# Altium integrated library Silicon Labs Automotive & Industrial MCUs.IntLib: 240 symbols (part 2 of 8)
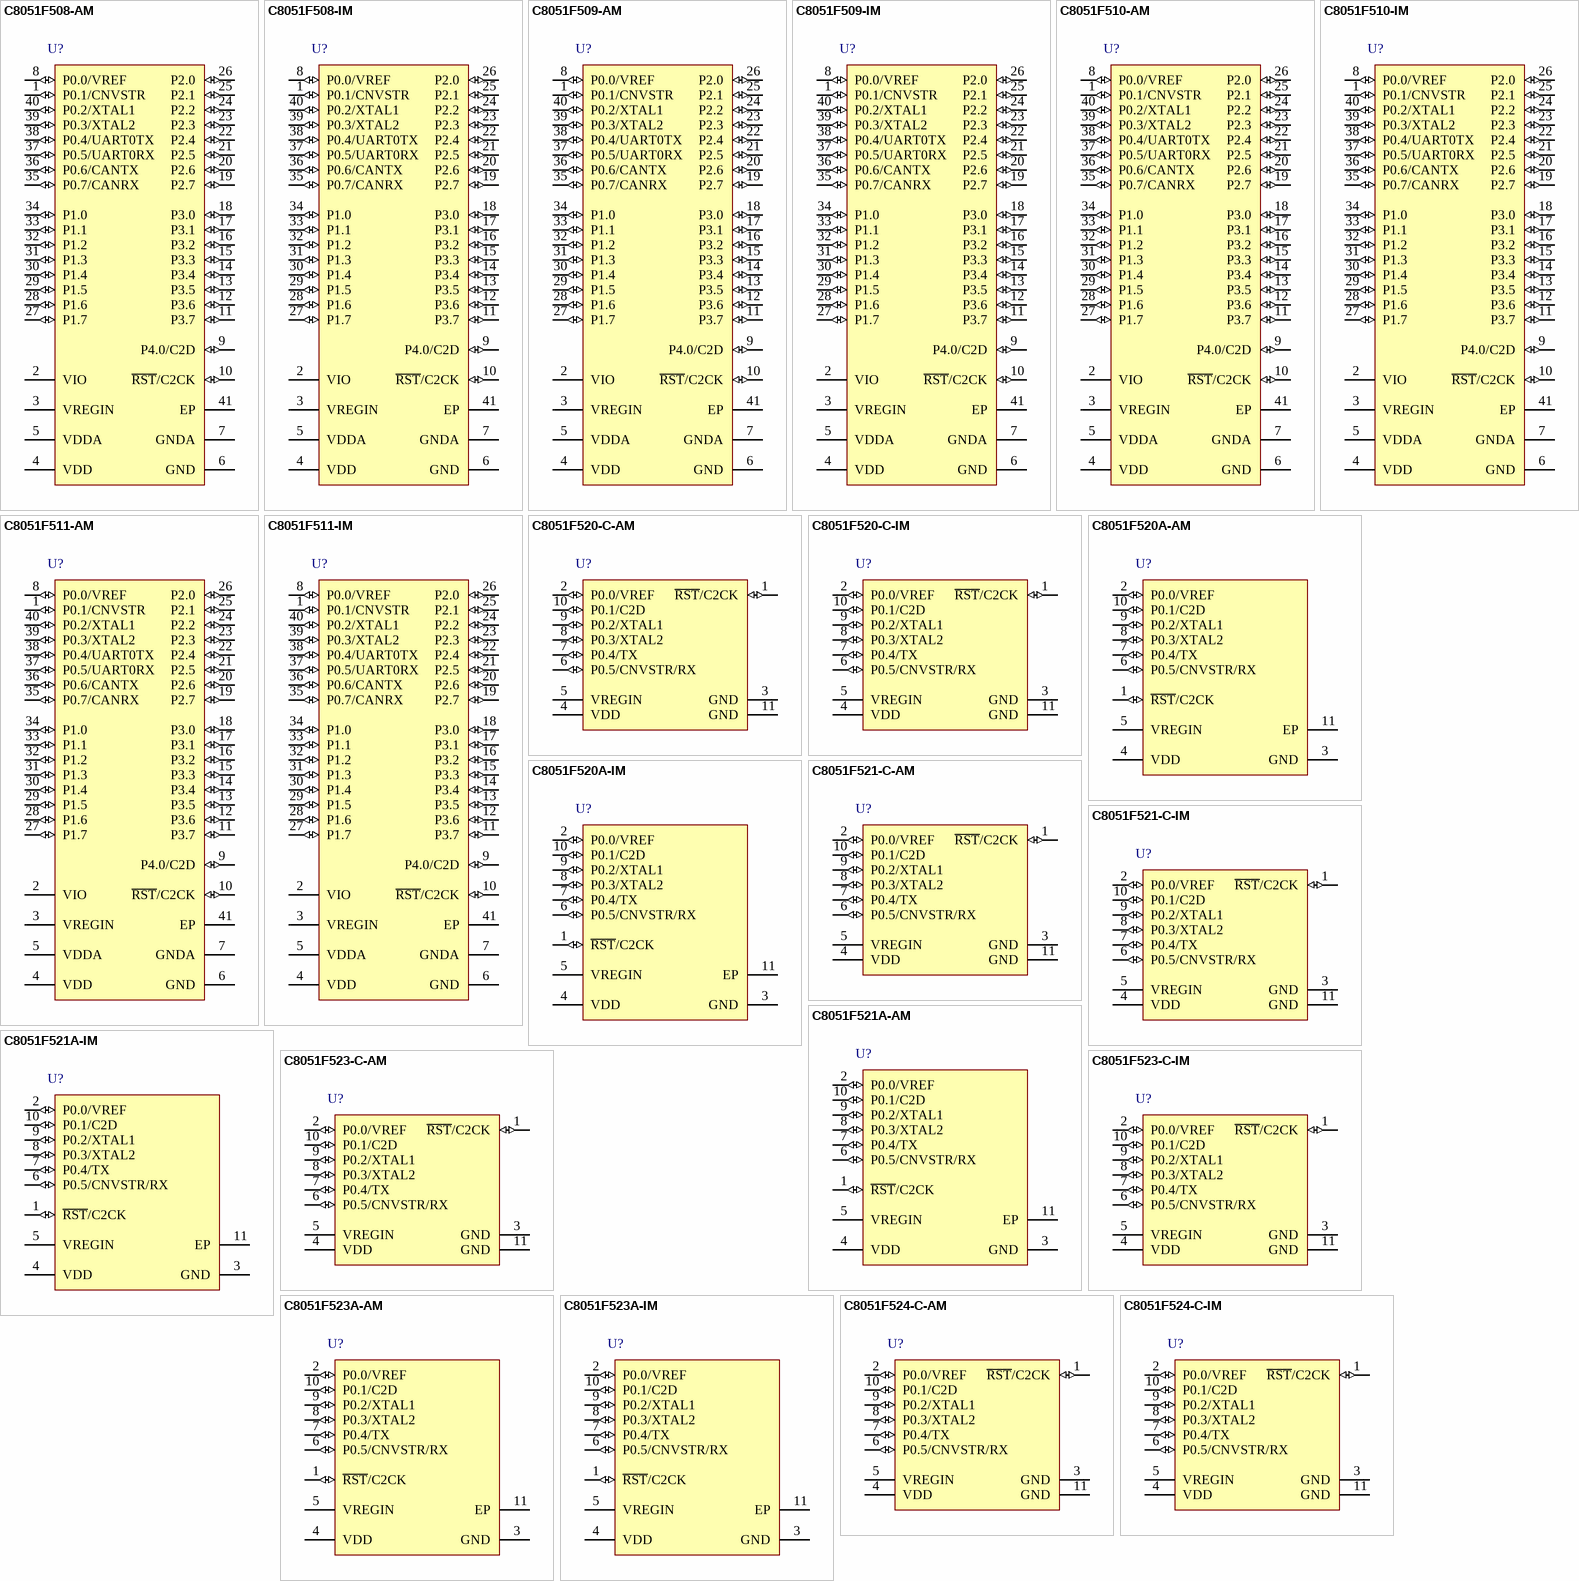
[diagram p14: symbols C8051F508-AM to C8051F524-C-IM]

## C8051F508-IM
designator U?
Mixed Signal 64KB ISP Flash MCU, 4352B RAM, 33 I/Os, 12-Bit 32 Channel ADC, Can 2.0B, LIN 2.0, Ext Mem, 40-Pin QFN, Industrial Grade; Manufacturer: Silicon Labs; PartNumber: C8051F508-IM; DatasheetVersion: rev1.2, Mar-2011; PackageVersion: 2011; PackageReference: QFN-40; PackageDescription: 40-Pin Quad Flat No-Lead, 6 x 6 x 0.85 mm Body, 0.5 mm Pitch; Supplier 1: Digi-Key; Supplier Part Number 1: 336-1560-5-ND; Supplier 2: Mouser; Supplier Part Number 2: 634-C8051F508-IM; Code_JEDEC: MO-220-VJJD-5; ComponentLink1Description: Manufacturer URL; ComponentLink1URL: http://www.silabs.com; ComponentLink2Description: Datasheet; ComponentLink2URL: http://www.silabs.com/Support%20Documents/TechnicalDocs/C8051F50x-51x.pdf
footprint QFN-40_V (QFN, 40-Leads, Body 6x6mm, Pitch 0.5mm, Thermal Pad 4.15x4.15mm, Silicon Labs Recommended)
pins: 1 P0.1/CNVSTR (io), 2 VIO (power), 3 VREGIN (power), 4 VDD (power), 5 VDDA (power), 6 GND (power), 7 GNDA (power), 8 P0.0/VREF (io), 9 P4.0/C2D (io), 10 ~{RST}/C2CK (io), 11 P3.7 (io), 12 P3.6 (io), 13 P3.5 (io), 14 P3.4 (io), 15 P3.3 (io), 16 P3.2 (io), 17 P3.1 (io), 18 P3.0 (io), 19 P2.7 (io), 20 P2.6 (io), 21 P2.5 (io), 22 P2.4 (io), 23 P2.3 (io), 24 P2.2 (io), 25 P2.1 (io), 26 P2.0 (io), 27 P1.7 (io), 28 P1.6 (io), 29 P1.5 (io), 30 P1.4 (io), 31 P1.3 (io), 32 P1.2 (io), 33 P1.1 (io), 34 P1.0 (io), 35 P0.7/CANRX (io), 36 P0.6/CANTX (io), 37 P0.5/UART0RX (io), 38 P0.4/UART0TX (io), 39 P0.3/XTAL2 (io), 40 P0.2/XTAL1 (io), 41 EP (power)

## C8051F509-AM
designator U?
Mixed Signal 64KB ISP Flash MCU, 4352B RAM, 33 I/Os, 12-Bit 32 Channel ADC, Ext Mem, 40-Pin QFN, Automotive Grade; Manufacturer: Silicon Labs; PartNumber: C8051F509-AM; DatasheetVersion: rev1.2, Mar-2011; PackageVersion: 2011; PackageReference: QFN-40; PackageDescription: 40-Pin Quad Flat No-Lead, 6 x 6 x 0.85 mm Body, 0.5 mm Pitch; Code_JEDEC: MO-220-VJJD-5; ComponentLink1Description: Manufacturer URL; ComponentLink1URL: http://www.silabs.com; ComponentLink2Description: Datasheet; ComponentLink2URL: http://www.silabs.com/Support%20Documents/TechnicalDocs/C8051F50x-51x.pdf
footprint QFN-40_V (QFN, 40-Leads, Body 6x6mm, Pitch 0.5mm, Thermal Pad 4.15x4.15mm, Silicon Labs Recommended)
pins: 1 P0.1/CNVSTR (io), 2 VIO (power), 3 VREGIN (power), 4 VDD (power), 5 VDDA (power), 6 GND (power), 7 GNDA (power), 8 P0.0/VREF (io), 9 P4.0/C2D (io), 10 ~{RST}/C2CK (io), 11 P3.7 (io), 12 P3.6 (io), 13 P3.5 (io), 14 P3.4 (io), 15 P3.3 (io), 16 P3.2 (io), 17 P3.1 (io), 18 P3.0 (io), 19 P2.7 (io), 20 P2.6 (io), 21 P2.5 (io), 22 P2.4 (io), 23 P2.3 (io), 24 P2.2 (io), 25 P2.1 (io), 26 P2.0 (io), 27 P1.7 (io), 28 P1.6 (io), 29 P1.5 (io), 30 P1.4 (io), 31 P1.3 (io), 32 P1.2 (io), 33 P1.1 (io), 34 P1.0 (io), 35 P0.7/CANRX (io), 36 P0.6/CANTX (io), 37 P0.5/UART0RX (io), 38 P0.4/UART0TX (io), 39 P0.3/XTAL2 (io), 40 P0.2/XTAL1 (io), 41 EP (power)

## C8051F509-IM
designator U?
Mixed Signal 64KB ISP Flash MCU, 4352B RAM, 33 I/Os, 12-Bit 32 Channel ADC, Ext Mem, 40-Pin QFN, Industrial Grade; Manufacturer: Silicon Labs; PartNumber: C8051F509-IM; DatasheetVersion: rev1.2, Mar-2011; PackageVersion: 2011; PackageReference: QFN-40; PackageDescription: 40-Pin Quad Flat No-Lead, 6 x 6 x 0.85 mm Body, 0.5 mm Pitch; Supplier 1: Digi-Key; Supplier Part Number 1: 336-1561-5-ND; Supplier 2: Mouser; Supplier Part Number 2: 634-C8051F509-IM; Code_JEDEC: MO-220-VJJD-5; ComponentLink1Description: Manufacturer URL; ComponentLink1URL: http://www.silabs.com; ComponentLink2Description: Datasheet; ComponentLink2URL: http://www.silabs.com/Support%20Documents/TechnicalDocs/C8051F50x-51x.pdf
footprint QFN-40_V (QFN, 40-Leads, Body 6x6mm, Pitch 0.5mm, Thermal Pad 4.15x4.15mm, Silicon Labs Recommended)
pins: 1 P0.1/CNVSTR (io), 2 VIO (power), 3 VREGIN (power), 4 VDD (power), 5 VDDA (power), 6 GND (power), 7 GNDA (power), 8 P0.0/VREF (io), 9 P4.0/C2D (io), 10 ~{RST}/C2CK (io), 11 P3.7 (io), 12 P3.6 (io), 13 P3.5 (io), 14 P3.4 (io), 15 P3.3 (io), 16 P3.2 (io), 17 P3.1 (io), 18 P3.0 (io), 19 P2.7 (io), 20 P2.6 (io), 21 P2.5 (io), 22 P2.4 (io), 23 P2.3 (io), 24 P2.2 (io), 25 P2.1 (io), 26 P2.0 (io), 27 P1.7 (io), 28 P1.6 (io), 29 P1.5 (io), 30 P1.4 (io), 31 P1.3 (io), 32 P1.2 (io), 33 P1.1 (io), 34 P1.0 (io), 35 P0.7/CANRX (io), 36 P0.6/CANTX (io), 37 P0.5/UART0RX (io), 38 P0.4/UART0TX (io), 39 P0.3/XTAL2 (io), 40 P0.2/XTAL1 (io), 41 EP (power)

## C8051F510-AM
designator U?
Mixed Signal 32KB ISP Flash MCU, 4352B RAM, 33 I/Os, 12-Bit 32 Channel ADC, Can 2.0B, LIN 2.0, Ext Mem, 40-Pin QFN, Automotive Grade; Manufacturer: Silicon Labs; PartNumber: C8051F510-AM; DatasheetVersion: rev1.2, Mar-2011; PackageVersion: 2011; PackageReference: QFN-40; PackageDescription: 40-Pin Quad Flat No-Lead, 6 x 6 x 0.85 mm Body, 0.5 mm Pitch; Code_JEDEC: MO-220-VJJD-5; ComponentLink1Description: Manufacturer URL; ComponentLink1URL: http://www.silabs.com; ComponentLink2Description: Datasheet; ComponentLink2URL: http://www.silabs.com/Support%20Documents/TechnicalDocs/C8051F50x-51x.pdf
footprint QFN-40_V (QFN, 40-Leads, Body 6x6mm, Pitch 0.5mm, Thermal Pad 4.15x4.15mm, Silicon Labs Recommended)
pins: 1 P0.1/CNVSTR (io), 2 VIO (power), 3 VREGIN (power), 4 VDD (power), 5 VDDA (power), 6 GND (power), 7 GNDA (power), 8 P0.0/VREF (io), 9 P4.0/C2D (io), 10 ~{RST}/C2CK (io), 11 P3.7 (io), 12 P3.6 (io), 13 P3.5 (io), 14 P3.4 (io), 15 P3.3 (io), 16 P3.2 (io), 17 P3.1 (io), 18 P3.0 (io), 19 P2.7 (io), 20 P2.6 (io), 21 P2.5 (io), 22 P2.4 (io), 23 P2.3 (io), 24 P2.2 (io), 25 P2.1 (io), 26 P2.0 (io), 27 P1.7 (io), 28 P1.6 (io), 29 P1.5 (io), 30 P1.4 (io), 31 P1.3 (io), 32 P1.2 (io), 33 P1.1 (io), 34 P1.0 (io), 35 P0.7/CANRX (io), 36 P0.6/CANTX (io), 37 P0.5/UART0RX (io), 38 P0.4/UART0TX (io), 39 P0.3/XTAL2 (io), 40 P0.2/XTAL1 (io), 41 EP (power)

## C8051F510-IM
designator U?
Mixed Signal 32KB ISP Flash MCU, 4352B RAM, 33 I/Os, 12-Bit 32 Channel ADC, Can 2.0B, LIN 2.0, Ext Mem, 40-Pin QFN, Industrial Grade; Manufacturer: Silicon Labs; PartNumber: C8051F510-IM; DatasheetVersion: rev1.2, Mar-2011; PackageVersion: 2011; PackageReference: QFN-40; PackageDescription: 40-Pin Quad Flat No-Lead, 6 x 6 x 0.85 mm Body, 0.5 mm Pitch; Supplier 1: Digi-Key; Supplier Part Number 1: 336-1562-5-ND; Supplier 2: Mouser; Supplier Part Number 2: 634-C8051F510-IM; Code_JEDEC: MO-220-VJJD-5; ComponentLink1Description: Manufacturer URL; ComponentLink1URL: http://www.silabs.com; ComponentLink2Description: Datasheet; ComponentLink2URL: http://www.silabs.com/Support%20Documents/TechnicalDocs/C8051F50x-51x.pdf
footprint QFN-40_V (QFN, 40-Leads, Body 6x6mm, Pitch 0.5mm, Thermal Pad 4.15x4.15mm, Silicon Labs Recommended)
pins: 1 P0.1/CNVSTR (io), 2 VIO (power), 3 VREGIN (power), 4 VDD (power), 5 VDDA (power), 6 GND (power), 7 GNDA (power), 8 P0.0/VREF (io), 9 P4.0/C2D (io), 10 ~{RST}/C2CK (io), 11 P3.7 (io), 12 P3.6 (io), 13 P3.5 (io), 14 P3.4 (io), 15 P3.3 (io), 16 P3.2 (io), 17 P3.1 (io), 18 P3.0 (io), 19 P2.7 (io), 20 P2.6 (io), 21 P2.5 (io), 22 P2.4 (io), 23 P2.3 (io), 24 P2.2 (io), 25 P2.1 (io), 26 P2.0 (io), 27 P1.7 (io), 28 P1.6 (io), 29 P1.5 (io), 30 P1.4 (io), 31 P1.3 (io), 32 P1.2 (io), 33 P1.1 (io), 34 P1.0 (io), 35 P0.7/CANRX (io), 36 P0.6/CANTX (io), 37 P0.5/UART0RX (io), 38 P0.4/UART0TX (io), 39 P0.3/XTAL2 (io), 40 P0.2/XTAL1 (io), 41 EP (power)

## C8051F511-AM
designator U?
Mixed Signal 32KB ISP Flash MCU, 4352B RAM, 33 I/Os, 12-Bit 32 Channel ADC, Ext Mem, 40-Pin QFN, Automotive Grade; Manufacturer: Silicon Labs; PartNumber: C8051F511-AM; DatasheetVersion: rev1.2, Mar-2011; PackageVersion: 2011; PackageReference: QFN-40; PackageDescription: 40-Pin Quad Flat No-Lead, 6 x 6 x 0.85 mm Body, 0.5 mm Pitch; Code_JEDEC: MO-220-VJJD-5; ComponentLink1Description: Manufacturer URL; ComponentLink1URL: http://www.silabs.com; ComponentLink2Description: Datasheet; ComponentLink2URL: http://www.silabs.com/Support%20Documents/TechnicalDocs/C8051F50x-51x.pdf
footprint QFN-40_V (QFN, 40-Leads, Body 6x6mm, Pitch 0.5mm, Thermal Pad 4.15x4.15mm, Silicon Labs Recommended)
pins: 1 P0.1/CNVSTR (io), 2 VIO (power), 3 VREGIN (power), 4 VDD (power), 5 VDDA (power), 6 GND (power), 7 GNDA (power), 8 P0.0/VREF (io), 9 P4.0/C2D (io), 10 ~{RST}/C2CK (io), 11 P3.7 (io), 12 P3.6 (io), 13 P3.5 (io), 14 P3.4 (io), 15 P3.3 (io), 16 P3.2 (io), 17 P3.1 (io), 18 P3.0 (io), 19 P2.7 (io), 20 P2.6 (io), 21 P2.5 (io), 22 P2.4 (io), 23 P2.3 (io), 24 P2.2 (io), 25 P2.1 (io), 26 P2.0 (io), 27 P1.7 (io), 28 P1.6 (io), 29 P1.5 (io), 30 P1.4 (io), 31 P1.3 (io), 32 P1.2 (io), 33 P1.1 (io), 34 P1.0 (io), 35 P0.7/CANRX (io), 36 P0.6/CANTX (io), 37 P0.5/UART0RX (io), 38 P0.4/UART0TX (io), 39 P0.3/XTAL2 (io), 40 P0.2/XTAL1 (io), 41 EP (power)

## C8051F511-IM
designator U?
Mixed Signal 32KB ISP Flash MCU, 4352B RAM, 33 I/Os, 12-Bit 32 Channel ADC, Ext Mem, 40-Pin QFN, Industrial Grade; Manufacturer: Silicon Labs; PartNumber: C8051F511-IM; DatasheetVersion: rev1.2, Mar-2011; PackageVersion: 2011; PackageReference: QFN-40; PackageDescription: 40-Pin Quad Flat No-Lead, 6 x 6 x 0.85 mm Body, 0.5 mm Pitch; Supplier 1: Digi-Key; Supplier Part Number 1: 336-1563-5-ND; Supplier 2: Mouser; Supplier Part Number 2: 634-C8051F511-IM; Code_JEDEC: MO-220-VJJD-5; ComponentLink1Description: Manufacturer URL; ComponentLink1URL: http://www.silabs.com; ComponentLink2Description: Datasheet; ComponentLink2URL: http://www.silabs.com/Support%20Documents/TechnicalDocs/C8051F50x-51x.pdf
footprint QFN-40_V (QFN, 40-Leads, Body 6x6mm, Pitch 0.5mm, Thermal Pad 4.15x4.15mm, Silicon Labs Recommended)
pins: 1 P0.1/CNVSTR (io), 2 VIO (power), 3 VREGIN (power), 4 VDD (power), 5 VDDA (power), 6 GND (power), 7 GNDA (power), 8 P0.0/VREF (io), 9 P4.0/C2D (io), 10 ~{RST}/C2CK (io), 11 P3.7 (io), 12 P3.6 (io), 13 P3.5 (io), 14 P3.4 (io), 15 P3.3 (io), 16 P3.2 (io), 17 P3.1 (io), 18 P3.0 (io), 19 P2.7 (io), 20 P2.6 (io), 21 P2.5 (io), 22 P2.4 (io), 23 P2.3 (io), 24 P2.2 (io), 25 P2.1 (io), 26 P2.0 (io), 27 P1.7 (io), 28 P1.6 (io), 29 P1.5 (io), 30 P1.4 (io), 31 P1.3 (io), 32 P1.2 (io), 33 P1.1 (io), 34 P1.0 (io), 35 P0.7/CANRX (io), 36 P0.6/CANTX (io), 37 P0.5/UART0RX (io), 38 P0.4/UART0TX (io), 39 P0.3/XTAL2 (io), 40 P0.2/XTAL1 (io), 41 EP (power)

## C8051F520-C-AM
designator U?
ISP Flash MCU Family, 25 MHz, 0.25 kB RAM, 8 kB Flash, -40 to 125 degC, 10-pin SON; Manufacturer: Silicon Labs; PartNumber: C8051F520-C-AM; Note: 0; ADC 1: 12-bit, 6-ch., 200 ksps; AEC-Q100: TRUE; Comparators: 1; Debug Interface: C2; Dig I/O Pins: 6; Flash: 8 kB; Internal Osc. Accuracy: +/-0.5%; MCU Core: 8051; MHz: 25; PCA Channels: 3; RAM: 0.25 kB; Sub-Family: Automotive & Industrial MCUs; DatasheetVersion: Rev. 1.4; PackageReference: DFN-10; PackageDescription: 10-Pin DFN, Body 3 x 3 mm, Pitch 0.5 mm; Temp Sensor: TRUE; Timers (16-bit): 3; Mounting Technology: Surface Mount; Code_JEDEC: MO-220; Code_IPC: J-STD-020; ComponentLink1Description: Manufacturer URL; ComponentLink1URL: http://www.silabs.com; ComponentLink2Description: Datasheet; ComponentLink2URL: http://www.silabs.com/Support Documents/TechnicalDocs/C8051F52x-F53x.pdf; ComponentLink3Description: Package Specification; ComponentLink3URL: http://www.silabs.com/Support Documents/TechnicalDocs/C8051F52x-F53x.pdf
footprint SLAB-DFN-10-2380X1650TP_V (SON, 10-Leads, Body 3x3mm, Pitch 0.5mm, Thermal Pad 1.75x2.5mm)
pins: 1 ~{RST}/C2CK (io), 2 P0.0/VREF (io), 3 GND (power) "Ground.", 4 VDD (power) "Core Supply Voltage.", 5 VREGIN (power) "On-Chip Voltage Regulator Input.", 6 P0.5/CNVSTR/RX (io), 7 P0.4/TX (io), 8 P0.3/XTAL2 (io), 9 P0.2/XTAL1 (io), 10 P0.1/C2D (io), 11 GND (power) "Ground."

## C8051F520-C-IM
designator U?
ISP Flash MCU Family, 25 MHz, 0.25 kB RAM, 8 kB Flash, -40 to 125 degC, 10-pin SON; Manufacturer: Silicon Labs; PartNumber: C8051F520-C-IM; ADC 1: 12-bit, 6-ch., 200 ksps; AEC-Q100: FALSE; Comparators: 1; Debug Interface: C2; Dig I/O Pins: 6; Flash: 8 kB; Internal Osc. Accuracy: +/-0.5%; MCU Core: 8051; MHz: 25; PCA Channels: 3; RAM: 0.25 kB; Temp Sensor: TRUE; Sub-Family: Automotive & Industrial MCUs; DatasheetVersion: Rev. 1.4; PackageReference: DFN-10; PackageDescription: 10-Pin DFN, Body 3 x 3 mm, Pitch 0.5 mm; Supplier 1: Digi-Key; Supplier Part Number 1: C8051F520-C-IM-ND; Supplier 2: Mouser; Supplier Part Number 2: 634-C8051F520-C-IM; Timers (16-bit): 3; Mounting Technology: Surface Mount; Code_JEDEC: MO-220; Code_IPC: J-STD-020; ComponentLink1Description: Manufacturer URL; ComponentLink1URL: http://www.silabs.com; ComponentLink2Description: Datasheet; ComponentLink2URL: http://www.silabs.com/Support Documents/TechnicalDocs/C8051F52x-F53x.pdf; ComponentLink3Description: Package Specification; ComponentLink3URL: http://www.silabs.com/Support Documents/TechnicalDocs/C8051F52x-F53x.pdf
footprint SLAB-DFN-10-2380X1650TP_V (SON, 10-Leads, Body 3x3mm, Pitch 0.5mm, Thermal Pad 1.75x2.5mm)
pins: 1 ~{RST}/C2CK (io), 2 P0.0/VREF (io), 3 GND (power) "Ground.", 4 VDD (power) "Core Supply Voltage.", 5 VREGIN (power) "On-Chip Voltage Regulator Input.", 6 P0.5/CNVSTR/RX (io), 7 P0.4/TX (io), 8 P0.3/XTAL2 (io), 9 P0.2/XTAL1 (io), 10 P0.1/C2D (io), 11 GND (power) "Ground."

## C8051F520A-AM
designator U?
Mixed Signal 8KB Flash ISP MCU, 256B RAM, 6 I/Os, 12-Bit 6 Channel ADC, LIN 2.1, 10-Pin DFN, Automotive Grade; Manufacturer: Silicon Labs; PartNumber: C8051F520A-AM; DatasheetVersion: rev1.3, Apr-2011; PackageVersion: 2011; PackageReference: DFN-10; PackageDescription: 10-Pin DFN, 3 x 3 x 0.9 mm Body, 0.5 mm Pitch, Exposed Pad; Code_JEDEC: MO-220-VEED; ComponentLink1Description: Manufacturer URL; ComponentLink1URL: http://www.silabs.com; ComponentLink2Description: Datasheet; ComponentLink2URL: http://www.silabs.com/Support%20Documents/TechnicalDocs/C8051F52x-F53x.pdf
footprint DFN10_V (SON, 10-Leads, Body 3x3mm, Pitch 0.5mm, Silicon Labs Recommended)
pins: 1 ~{RST}/C2CK (io), 2 P0.0/VREF (io), 3 GND (power), 4 VDD (power), 5 VREGIN (power), 6 P0.5/CNVSTR/RX (io), 7 P0.4/TX (io), 8 P0.3/XTAL2 (io), 9 P0.2/XTAL1 (io), 10 P0.1/C2D (io), 11 EP (power)

## C8051F520A-IM
designator U?
Mixed Signal 8KB Flash ISP MCU, 256B RAM, 6 I/Os, 12-Bit 6 Channel ADC, LIN 2.1, 10-Pin DFN, Industrial Grade; Manufacturer: Silicon Labs; PartNumber: C8051F520A-IM; DatasheetVersion: rev1.3, Apr-2011; PackageVersion: 2011; PackageReference: DFN-10; PackageDescription: 10-Pin DFN, 3 x 3 x 0.9 mm Body, 0.5 mm Pitch, Exposed Pad; Supplier 1: Digi-Key; Supplier Part Number 1: 336-1484-5-ND; Supplier 2: Mouser; Supplier Part Number 2: 634-C8051F520A-IM; Code_JEDEC: MO-220-VEED; ComponentLink1Description: Manufacturer URL; ComponentLink1URL: http://www.silabs.com; ComponentLink2Description: Datasheet; ComponentLink2URL: http://www.silabs.com/Support%20Documents/TechnicalDocs/C8051F52x-F53x.pdf
footprint DFN10_V (SON, 10-Leads, Body 3x3mm, Pitch 0.5mm, Silicon Labs Recommended)
pins: 1 ~{RST}/C2CK (io), 2 P0.0/VREF (io), 3 GND (power), 4 VDD (power), 5 VREGIN (power), 6 P0.5/CNVSTR/RX (io), 7 P0.4/TX (io), 8 P0.3/XTAL2 (io), 9 P0.2/XTAL1 (io), 10 P0.1/C2D (io), 11 EP (power)

## C8051F521-C-AM
designator U?
ISP Flash MCU Family, 25 MHz, 0.25 kB RAM, 8 kB Flash, -40 to 125 degC, 10-pin SON; Manufacturer: Silicon Labs; PartNumber: C8051F521-C-AM; Note: 0; ADC 1: 12-bit, 6-ch., 200 ksps; AEC-Q100: TRUE; Comparators: 1; Debug Interface: C2; Dig I/O Pins: 6; Flash: 8 kB; Internal Osc. Accuracy: +/-0.5%; MCU Core: 8051; MHz: 25; PCA Channels: 3; RAM: 0.25 kB; Sub-Family: Automotive & Industrial MCUs; DatasheetVersion: Rev. 1.4; PackageReference: DFN-10; PackageDescription: 10-Pin DFN, Body 3 x 3 mm, Pitch 0.5 mm; Temp Sensor: TRUE; Timers (16-bit): 3; Mounting Technology: Surface Mount; Code_JEDEC: MO-220; Code_IPC: J-STD-020; ComponentLink1Description: Manufacturer URL; ComponentLink1URL: http://www.silabs.com; ComponentLink2Description: Datasheet; ComponentLink2URL: http://www.silabs.com/Support Documents/TechnicalDocs/C8051F52x-F53x.pdf; ComponentLink3Description: Package Specification; ComponentLink3URL: http://www.silabs.com/Support Documents/TechnicalDocs/C8051F52x-F53x.pdf
footprint SLAB-DFN-10-2380X1650TP_V (SON, 10-Leads, Body 3x3mm, Pitch 0.5mm, Thermal Pad 1.75x2.5mm)
pins: 1 ~{RST}/C2CK (io), 2 P0.0/VREF (io), 3 GND (power) "Ground.", 4 VDD (power) "Core Supply Voltage.", 5 VREGIN (power) "On-Chip Voltage Regulator Input.", 6 P0.5/CNVSTR/RX (io), 7 P0.4/TX (io), 8 P0.3/XTAL2 (io), 9 P0.2/XTAL1 (io), 10 P0.1/C2D (io), 11 GND (power) "Ground."

## C8051F521-C-IM
designator U?
ISP Flash MCU Family, 25 MHz, 0.25 kB RAM, 8 kB Flash, -40 to 125 degC, 10-pin SON; Manufacturer: Silicon Labs; PartNumber: C8051F521-C-IM; ADC 1: 12-bit, 6-ch., 200 ksps; AEC-Q100: FALSE; Comparators: 1; Debug Interface: C2; Dig I/O Pins: 6; Flash: 8 kB; Internal Osc. Accuracy: +/-0.5%; MCU Core: 8051; MHz: 25; PCA Channels: 3; RAM: 0.25 kB; Temp Sensor: TRUE; Sub-Family: Automotive & Industrial MCUs; DatasheetVersion: Rev. 1.4; PackageReference: DFN-10; PackageDescription: 10-Pin DFN, Body 3 x 3 mm, Pitch 0.5 mm; Supplier 1: Digi-Key; Supplier Part Number 1: C8051F521-C-IM-ND; Supplier 2: Mouser; Supplier Part Number 2: 634-C8051F521-C-IM; Timers (16-bit): 3; Mounting Technology: Surface Mount; Code_JEDEC: MO-220; Code_IPC: J-STD-020; ComponentLink1Description: Manufacturer URL; ComponentLink1URL: http://www.silabs.com; ComponentLink2Description: Datasheet; ComponentLink2URL: http://www.silabs.com/Support Documents/TechnicalDocs/C8051F52x-F53x.pdf; ComponentLink3Description: Package Specification; ComponentLink3URL: http://www.silabs.com/Support Documents/TechnicalDocs/C8051F52x-F53x.pdf
footprint SLAB-DFN-10-2380X1650TP_V (SON, 10-Leads, Body 3x3mm, Pitch 0.5mm, Thermal Pad 1.75x2.5mm)
pins: 1 ~{RST}/C2CK (io), 2 P0.0/VREF (io), 3 GND (power) "Ground.", 4 VDD (power) "Core Supply Voltage.", 5 VREGIN (power) "On-Chip Voltage Regulator Input.", 6 P0.5/CNVSTR/RX (io), 7 P0.4/TX (io), 8 P0.3/XTAL2 (io), 9 P0.2/XTAL1 (io), 10 P0.1/C2D (io), 11 GND (power) "Ground."

## C8051F521A-AM
designator U?
Mixed Signal 8KB Flash ISP MCU, 256B RAM, 6 I/Os, 12-Bit 6 Channel ADC, SPI, 10-Pin DFN, Automotive Grade; Manufacturer: Silicon Labs; PartNumber: C8051F521A-AM; DatasheetVersion: rev1.3, Apr-2011; PackageVersion: 2011; PackageReference: DFN-10; PackageDescription: 10-Pin DFN, 3 x 3 x 0.9 mm Body, 0.5 mm Pitch, Exposed Pad; Code_JEDEC: MO-220-VEED; ComponentLink1Description: Manufacturer URL; ComponentLink1URL: http://www.silabs.com; ComponentLink2Description: Datasheet; ComponentLink2URL: http://www.silabs.com/Support%20Documents/TechnicalDocs/C8051F52x-F53x.pdf
footprint DFN10_V (SON, 10-Leads, Body 3x3mm, Pitch 0.5mm, Silicon Labs Recommended)
pins: 1 ~{RST}/C2CK (io), 2 P0.0/VREF (io), 3 GND (power), 4 VDD (power), 5 VREGIN (power), 6 P0.5/CNVSTR/RX (io), 7 P0.4/TX (io), 8 P0.3/XTAL2 (io), 9 P0.2/XTAL1 (io), 10 P0.1/C2D (io), 11 EP (power)

## C8051F521A-IM
designator U?
Mixed Signal 8KB Flash ISP MCU, 256B RAM, 6 I/Os, 12-Bit 6 Channel ADC, SPI, 10-Pin DFN, Industrial Grade; Manufacturer: Silicon Labs; PartNumber: C8051F521A-IM; DatasheetVersion: rev1.3, Apr-2011; PackageVersion: 2011; PackageReference: DFN-10; PackageDescription: 10-Pin DFN, 3 x 3 x 0.9 mm Body, 0.5 mm Pitch, Exposed Pad; Supplier 1: Digi-Key; Supplier Part Number 1: 336-1490-5-ND; Supplier 2: Mouser; Supplier Part Number 2: 634-C8051F521A-IM; Code_JEDEC: MO-220-VEED; ComponentLink1Description: Manufacturer URL; ComponentLink1URL: http://www.silabs.com; ComponentLink2Description: Datasheet; ComponentLink2URL: http://www.silabs.com/Support%20Documents/TechnicalDocs/C8051F52x-F53x.pdf
footprint DFN10_V (SON, 10-Leads, Body 3x3mm, Pitch 0.5mm, Silicon Labs Recommended)
pins: 1 ~{RST}/C2CK (io), 2 P0.0/VREF (io), 3 GND (power), 4 VDD (power), 5 VREGIN (power), 6 P0.5/CNVSTR/RX (io), 7 P0.4/TX (io), 8 P0.3/XTAL2 (io), 9 P0.2/XTAL1 (io), 10 P0.1/C2D (io), 11 EP (power)

## C8051F523-C-AM
designator U?
ISP Flash MCU Family, 25 MHz, 0.25 kB RAM, 4 kB Flash, -40 to 125 degC, 10-pin SON; Manufacturer: Silicon Labs; PartNumber: C8051F523-C-AM; Note: 0; ADC 1: 12-bit, 6-ch., 200 ksps; AEC-Q100: TRUE; Comparators: 1; Debug Interface: C2; Dig I/O Pins: 6; Flash: 4 kB; Internal Osc. Accuracy: +/-0.5%; MCU Core: 8051; MHz: 25; PCA Channels: 3; RAM: 0.25 kB; Sub-Family: Automotive & Industrial MCUs; DatasheetVersion: Rev. 1.4; PackageReference: DFN-10; PackageDescription: 10-Pin DFN, Body 3 x 3 mm, Pitch 0.5 mm; Temp Sensor: TRUE; Timers (16-bit): 3; Mounting Technology: Surface Mount; Code_JEDEC: MO-220; Code_IPC: J-STD-020; ComponentLink1Description: Manufacturer URL; ComponentLink1URL: http://www.silabs.com; ComponentLink2Description: Datasheet; ComponentLink2URL: http://www.silabs.com/Support Documents/TechnicalDocs/C8051F52x-F53x.pdf; ComponentLink3Description: Package Specification; ComponentLink3URL: http://www.silabs.com/Support Documents/TechnicalDocs/C8051F52x-F53x.pdf
footprint SLAB-DFN-10-2380X1650TP_V (SON, 10-Leads, Body 3x3mm, Pitch 0.5mm, Thermal Pad 1.75x2.5mm)
pins: 1 ~{RST}/C2CK (io), 2 P0.0/VREF (io), 3 GND (power) "Ground.", 4 VDD (power) "Core Supply Voltage.", 5 VREGIN (power) "On-Chip Voltage Regulator Input.", 6 P0.5/CNVSTR/RX (io), 7 P0.4/TX (io), 8 P0.3/XTAL2 (io), 9 P0.2/XTAL1 (io), 10 P0.1/C2D (io), 11 GND (power) "Ground."

## C8051F523-C-IM
designator U?
ISP Flash MCU Family, 25 MHz, 0.25 kB RAM, 4 kB Flash, -40 to 125 degC, 10-pin SON; Manufacturer: Silicon Labs; PartNumber: C8051F523-C-IM; ADC 1: 12-bit, 6-ch., 200 ksps; AEC-Q100: FALSE; Comparators: 1; Debug Interface: C2; Dig I/O Pins: 6; Flash: 4 kB; Internal Osc. Accuracy: +/-0.5%; MCU Core: 8051; MHz: 25; PCA Channels: 3; RAM: 0.25 kB; Temp Sensor: TRUE; Sub-Family: Automotive & Industrial MCUs; DatasheetVersion: Rev. 1.4; PackageReference: DFN-10; PackageDescription: 10-Pin DFN, Body 3 x 3 mm, Pitch 0.5 mm; Supplier 1: Digi-Key; Supplier Part Number 1: C8051F523-C-IM-ND; Supplier 2: Mouser; Supplier Part Number 2: 634-C8051F523-C-IM; Timers (16-bit): 3; Mounting Technology: Surface Mount; Code_JEDEC: MO-220; Code_IPC: J-STD-020; ComponentLink1Description: Manufacturer URL; ComponentLink1URL: http://www.silabs.com; ComponentLink2Description: Datasheet; ComponentLink2URL: http://www.silabs.com/Support Documents/TechnicalDocs/C8051F52x-F53x.pdf; ComponentLink3Description: Package Specification; ComponentLink3URL: http://www.silabs.com/Support Documents/TechnicalDocs/C8051F52x-F53x.pdf
footprint SLAB-DFN-10-2380X1650TP_V (SON, 10-Leads, Body 3x3mm, Pitch 0.5mm, Thermal Pad 1.75x2.5mm)
pins: 1 ~{RST}/C2CK (io), 2 P0.0/VREF (io), 3 GND (power) "Ground.", 4 VDD (power) "Core Supply Voltage.", 5 VREGIN (power) "On-Chip Voltage Regulator Input.", 6 P0.5/CNVSTR/RX (io), 7 P0.4/TX (io), 8 P0.3/XTAL2 (io), 9 P0.2/XTAL1 (io), 10 P0.1/C2D (io), 11 GND (power) "Ground."

## C8051F523A-AM
designator U?
Mixed Signal 4KB Flash ISP MCU, 256B RAM, 6 I/Os, 12-Bit 6 Channel ADC, LIN 2.1, 10-Pin DFN, Automotive Grade; Manufacturer: Silicon Labs; PartNumber: C8051F523A-AM; DatasheetVersion: rev1.3, Apr-2011; PackageVersion: 2011; PackageReference: DFN-10; PackageDescription: 10-Pin DFN, 3 x 3 x 0.9 mm Body, 0.5 mm Pitch, Exposed Pad; Code_JEDEC: MO-220-VEED; ComponentLink1Description: Manufacturer URL; ComponentLink1URL: http://www.silabs.com; ComponentLink2Description: Datasheet; ComponentLink2URL: http://www.silabs.com/Support%20Documents/TechnicalDocs/C8051F52x-F53x.pdf
footprint DFN10_V (SON, 10-Leads, Body 3x3mm, Pitch 0.5mm, Silicon Labs Recommended)
pins: 1 ~{RST}/C2CK (io), 2 P0.0/VREF (io), 3 GND (power), 4 VDD (power), 5 VREGIN (power), 6 P0.5/CNVSTR/RX (io), 7 P0.4/TX (io), 8 P0.3/XTAL2 (io), 9 P0.2/XTAL1 (io), 10 P0.1/C2D (io), 11 EP (power)

## C8051F523A-IM
designator U?
Mixed Signal 4KB Flash ISP MCU, 256B RAM, 6 I/Os, 12-Bit 6 Channel ADC, LIN 2.1, 10-Pin DFN, Industrial Grade; Manufacturer: Silicon Labs; PartNumber: C8051F523A-IM; DatasheetVersion: rev1.3, Apr-2011; PackageVersion: 2011; PackageReference: DFN-10; PackageDescription: 10-Pin DFN, 3 x 3 x 0.9 mm Body, 0.5 mm Pitch, Exposed Pad; Supplier 1: Digi-Key; Supplier Part Number 1: 336-1491-5-ND; Supplier 2: Mouser; Supplier Part Number 2: 634-C8051F523A-IM; Code_JEDEC: MO-220-VEED; ComponentLink1Description: Manufacturer URL; ComponentLink1URL: http://www.silabs.com; ComponentLink2Description: Datasheet; ComponentLink2URL: http://www.silabs.com/Support%20Documents/TechnicalDocs/C8051F52x-F53x.pdf
footprint DFN10_V (SON, 10-Leads, Body 3x3mm, Pitch 0.5mm, Silicon Labs Recommended)
pins: 1 ~{RST}/C2CK (io), 2 P0.0/VREF (io), 3 GND (power), 4 VDD (power), 5 VREGIN (power), 6 P0.5/CNVSTR/RX (io), 7 P0.4/TX (io), 8 P0.3/XTAL2 (io), 9 P0.2/XTAL1 (io), 10 P0.1/C2D (io), 11 EP (power)

## C8051F524-C-AM
designator U?
ISP Flash MCU Family, 25 MHz, 0.25 kB RAM, 4 kB Flash, -40 to 125 degC, 10-pin SON; Manufacturer: Silicon Labs; PartNumber: C8051F524-C-AM; Note: 0; ADC 1: 12-bit, 6-ch., 200 ksps; AEC-Q100: TRUE; Comparators: 1; Debug Interface: C2; Dig I/O Pins: 6; Flash: 4 kB; Internal Osc. Accuracy: +/-0.5%; MCU Core: 8051; MHz: 25; PCA Channels: 3; RAM: 0.25 kB; Sub-Family: Automotive & Industrial MCUs; DatasheetVersion: Rev. 1.4; PackageReference: DFN-10; PackageDescription: 10-Pin DFN, Body 3 x 3 mm, Pitch 0.5 mm; Temp Sensor: TRUE; Timers (16-bit): 3; Mounting Technology: Surface Mount; Code_JEDEC: MO-220; Code_IPC: J-STD-020; ComponentLink1Description: Manufacturer URL; ComponentLink1URL: http://www.silabs.com; ComponentLink2Description: Datasheet; ComponentLink2URL: http://www.silabs.com/Support Documents/TechnicalDocs/C8051F52x-F53x.pdf; ComponentLink3Description: Package Specification; ComponentLink3URL: http://www.silabs.com/Support Documents/TechnicalDocs/C8051F52x-F53x.pdf
footprint SLAB-DFN-10-2380X1650TP_V (SON, 10-Leads, Body 3x3mm, Pitch 0.5mm, Thermal Pad 1.75x2.5mm)
pins: 1 ~{RST}/C2CK (io), 2 P0.0/VREF (io), 3 GND (power) "Ground.", 4 VDD (power) "Core Supply Voltage.", 5 VREGIN (power) "On-Chip Voltage Regulator Input.", 6 P0.5/CNVSTR/RX (io), 7 P0.4/TX (io), 8 P0.3/XTAL2 (io), 9 P0.2/XTAL1 (io), 10 P0.1/C2D (io), 11 GND (power) "Ground."

## C8051F524-C-IM
designator U?
ISP Flash MCU Family, 25 MHz, 0.25 kB RAM, 4 kB Flash, -40 to 125 degC, 10-pin SON; Manufacturer: Silicon Labs; PartNumber: C8051F524-C-IM; ADC 1: 12-bit, 6-ch., 200 ksps; AEC-Q100: FALSE; Comparators: 1; Debug Interface: C2; Dig I/O Pins: 6; Flash: 4 kB; Internal Osc. Accuracy: +/-0.5%; MCU Core: 8051; MHz: 25; PCA Channels: 3; RAM: 0.25 kB; Temp Sensor: TRUE; Sub-Family: Automotive & Industrial MCUs; DatasheetVersion: Rev. 1.4; PackageReference: DFN-10; PackageDescription: 10-Pin DFN, Body 3 x 3 mm, Pitch 0.5 mm; Supplier 1: Digi-Key; Supplier Part Number 1: C8051F524-C-IM-ND; Supplier 2: Mouser; Supplier Part Number 2: 634-C8051F524-C-IM; Timers (16-bit): 3; Mounting Technology: Surface Mount; Code_JEDEC: MO-220; Code_IPC: J-STD-020; ComponentLink1Description: Manufacturer URL; ComponentLink1URL: http://www.silabs.com; ComponentLink2Description: Datasheet; ComponentLink2URL: http://www.silabs.com/Support Documents/TechnicalDocs/C8051F52x-F53x.pdf; ComponentLink3Description: Package Specification; ComponentLink3URL: http://www.silabs.com/Support Documents/TechnicalDocs/C8051F52x-F53x.pdf
footprint SLAB-DFN-10-2380X1650TP_V (SON, 10-Leads, Body 3x3mm, Pitch 0.5mm, Thermal Pad 1.75x2.5mm)
pins: 1 ~{RST}/C2CK (io), 2 P0.0/VREF (io), 3 GND (power) "Ground.", 4 VDD (power) "Core Supply Voltage.", 5 VREGIN (power) "On-Chip Voltage Regulator Input.", 6 P0.5/CNVSTR/RX (io), 7 P0.4/TX (io), 8 P0.3/XTAL2 (io), 9 P0.2/XTAL1 (io), 10 P0.1/C2D (io), 11 GND (power) "Ground."

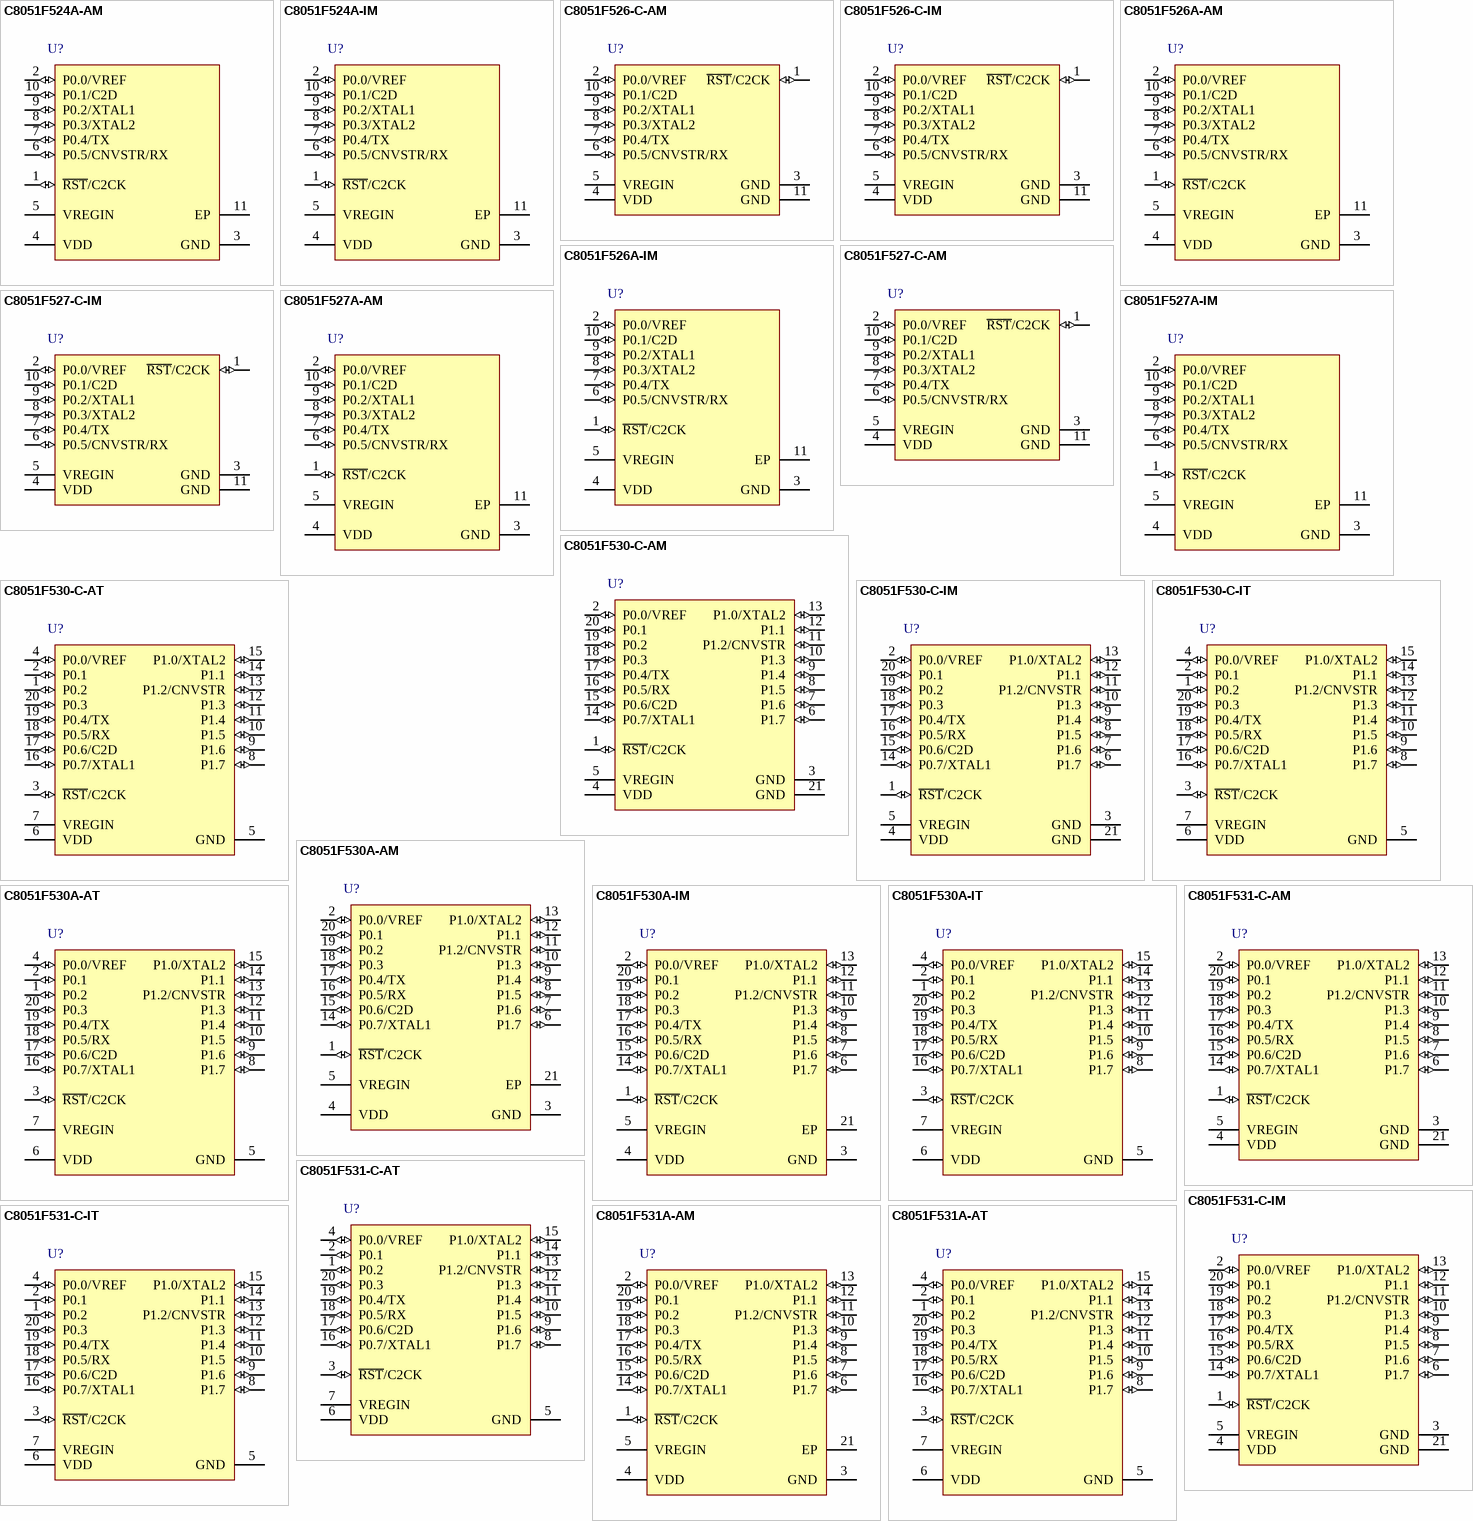
[diagram p3: symbols C8051F524A-AM to C8051F531A-AT]

## C8051F524A-AM
designator U?
Mixed Signal 4KB Flash ISP MCU, 256B RAM, 6 I/Os, 12-Bit 6 Channel ADC, SPI, 10-Pin DFN, Automotive Grade; Manufacturer: Silicon Labs; PartNumber: C8051F524A-AM; DatasheetVersion: rev1.3, Apr-2011; PackageVersion: 2011; PackageReference: DFN-10; PackageDescription: 10-Pin DFN, 3 x 3 x 0.9 mm Body, 0.5 mm Pitch, Exposed Pad; Code_JEDEC: MO-220-VEED; ComponentLink1Description: Manufacturer URL; ComponentLink1URL: http://www.silabs.com; ComponentLink2Description: Datasheet; ComponentLink2URL: http://www.silabs.com/Support%20Documents/TechnicalDocs/C8051F52x-F53x.pdf
footprint DFN10_V (SON, 10-Leads, Body 3x3mm, Pitch 0.5mm, Silicon Labs Recommended)
pins: 1 ~{RST}/C2CK (io), 2 P0.0/VREF (io), 3 GND (power), 4 VDD (power), 5 VREGIN (power), 6 P0.5/CNVSTR/RX (io), 7 P0.4/TX (io), 8 P0.3/XTAL2 (io), 9 P0.2/XTAL1 (io), 10 P0.1/C2D (io), 11 EP (power)

## C8051F524A-IM
designator U?
Mixed Signal 4KB Flash ISP MCU, 256B RAM, 6 I/Os, 12-Bit 6 Channel ADC, SPI, 10-Pin DFN, Industrial Grade; Manufacturer: Silicon Labs; PartNumber: C8051F524A-IM; DatasheetVersion: rev1.3, Apr-2011; PackageVersion: 2011; PackageReference: DFN-10; PackageDescription: 10-Pin DFN, 3 x 3 x 0.9 mm Body, 0.5 mm Pitch, Exposed Pad; Supplier 1: Digi-Key; Supplier Part Number 1: 336-1492-5-ND; Supplier 2: Mouser; Supplier Part Number 2: 634-C8051F524A-IM; Code_JEDEC: MO-220-VEED; ComponentLink1Description: Manufacturer URL; ComponentLink1URL: http://www.silabs.com; ComponentLink2Description: Datasheet; ComponentLink2URL: http://www.silabs.com/Support%20Documents/TechnicalDocs/C8051F52x-F53x.pdf
footprint DFN10_V (SON, 10-Leads, Body 3x3mm, Pitch 0.5mm, Silicon Labs Recommended)
pins: 1 ~{RST}/C2CK (io), 2 P0.0/VREF (io), 3 GND (power), 4 VDD (power), 5 VREGIN (power), 6 P0.5/CNVSTR/RX (io), 7 P0.4/TX (io), 8 P0.3/XTAL2 (io), 9 P0.2/XTAL1 (io), 10 P0.1/C2D (io), 11 EP (power)

## C8051F526-C-AM
designator U?
ISP Flash MCU Family, 25 MHz, 0.25 kB RAM, 2 kB Flash, -40 to 125 degC, 10-pin SON; Manufacturer: Silicon Labs; PartNumber: C8051F526-C-AM; Note: 0; ADC 1: 12-bit, 6-ch., 200 ksps; AEC-Q100: TRUE; Comparators: 1; Debug Interface: C2; Dig I/O Pins: 6; Flash: 2 kB; Internal Osc. Accuracy: +/-0.5%; MCU Core: 8051; MHz: 25; PCA Channels: 3; RAM: 0.25 kB; Sub-Family: Automotive & Industrial MCUs; DatasheetVersion: Rev. 1.4; PackageReference: DFN-10; PackageDescription: 10-Pin DFN, Body 3 x 3 mm, Pitch 0.5 mm; Temp Sensor: TRUE; Timers (16-bit): 3; Mounting Technology: Surface Mount; Code_JEDEC: MO-220; Code_IPC: J-STD-020; ComponentLink1Description: Manufacturer URL; ComponentLink1URL: http://www.silabs.com; ComponentLink2Description: Datasheet; ComponentLink2URL: http://www.silabs.com/Support Documents/TechnicalDocs/C8051F52x-F53x.pdf; ComponentLink3Description: Package Specification; ComponentLink3URL: http://www.silabs.com/Support Documents/TechnicalDocs/C8051F52x-F53x.pdf
footprint SLAB-DFN-10-2380X1650TP_V (SON, 10-Leads, Body 3x3mm, Pitch 0.5mm, Thermal Pad 1.75x2.5mm)
pins: 1 ~{RST}/C2CK (io), 2 P0.0/VREF (io), 3 GND (power) "Ground.", 4 VDD (power) "Core Supply Voltage.", 5 VREGIN (power) "On-Chip Voltage Regulator Input.", 6 P0.5/CNVSTR/RX (io), 7 P0.4/TX (io), 8 P0.3/XTAL2 (io), 9 P0.2/XTAL1 (io), 10 P0.1/C2D (io), 11 GND (power) "Ground."

## C8051F526-C-IM
designator U?
ISP Flash MCU Family, 25 MHz, 0.25 kB RAM, 2 kB Flash, -40 to 125 degC, 10-pin SON; Manufacturer: Silicon Labs; PartNumber: C8051F526-C-IM; ADC 1: 12-bit, 6-ch., 200 ksps; AEC-Q100: FALSE; Comparators: 1; Debug Interface: C2; Dig I/O Pins: 6; Flash: 2 kB; Internal Osc. Accuracy: +/-0.5%; MCU Core: 8051; MHz: 25; PCA Channels: 3; RAM: 0.25 kB; Temp Sensor: TRUE; Sub-Family: Automotive & Industrial MCUs; DatasheetVersion: Rev. 1.4; PackageReference: DFN-10; PackageDescription: 10-Pin DFN, Body 3 x 3 mm, Pitch 0.5 mm; Supplier 1: Digi-Key; Supplier Part Number 1: C8051F526-C-IM-ND; Supplier 2: Mouser; Supplier Part Number 2: 634-C8051F526-C-IM; Timers (16-bit): 3; Mounting Technology: Surface Mount; Code_JEDEC: MO-220; Code_IPC: J-STD-020; ComponentLink1Description: Manufacturer URL; ComponentLink1URL: http://www.silabs.com; ComponentLink2Description: Datasheet; ComponentLink2URL: http://www.silabs.com/Support Documents/TechnicalDocs/C8051F52x-F53x.pdf; ComponentLink3Description: Package Specification; ComponentLink3URL: http://www.silabs.com/Support Documents/TechnicalDocs/C8051F52x-F53x.pdf
footprint SLAB-DFN-10-2380X1650TP_V (SON, 10-Leads, Body 3x3mm, Pitch 0.5mm, Thermal Pad 1.75x2.5mm)
pins: 1 ~{RST}/C2CK (io), 2 P0.0/VREF (io), 3 GND (power) "Ground.", 4 VDD (power) "Core Supply Voltage.", 5 VREGIN (power) "On-Chip Voltage Regulator Input.", 6 P0.5/CNVSTR/RX (io), 7 P0.4/TX (io), 8 P0.3/XTAL2 (io), 9 P0.2/XTAL1 (io), 10 P0.1/C2D (io), 11 GND (power) "Ground."

## C8051F526A-AM
designator U?
Mixed Signal 2KB Flash ISP MCU, 256B RAM, 6 I/Os, 12-Bit 6 Channel ADC, LIN 2.1, 10-Pin DFN, Automotive Grade; Manufacturer: Silicon Labs; PartNumber: C8051F526A-AM; DatasheetVersion: rev1.3, Apr-2011; PackageVersion: 2011; PackageReference: DFN-10; PackageDescription: 10-Pin DFN, 3 x 3 x 0.9 mm Body, 0.5 mm Pitch, Exposed Pad; Code_JEDEC: MO-220-VEED; ComponentLink1Description: Manufacturer URL; ComponentLink1URL: http://www.silabs.com; ComponentLink2Description: Datasheet; ComponentLink2URL: http://www.silabs.com/Support%20Documents/TechnicalDocs/C8051F52x-F53x.pdf
footprint DFN10_V (SON, 10-Leads, Body 3x3mm, Pitch 0.5mm, Silicon Labs Recommended)
pins: 1 ~{RST}/C2CK (io), 2 P0.0/VREF (io), 3 GND (power), 4 VDD (power), 5 VREGIN (power), 6 P0.5/CNVSTR/RX (io), 7 P0.4/TX (io), 8 P0.3/XTAL2 (io), 9 P0.2/XTAL1 (io), 10 P0.1/C2D (io), 11 EP (power)

## C8051F526A-IM
designator U?
Mixed Signal 2KB Flash ISP MCU, 256B RAM, 6 I/Os, 12-Bit 6 Channel ADC, LIN 2.1, 10-Pin DFN, Industrial Grade; Manufacturer: Silicon Labs; PartNumber: C8051F526A-IM; DatasheetVersion: rev1.3, Apr-2011; PackageVersion: 2011; PackageReference: DFN-10; PackageDescription: 10-Pin DFN, 3 x 3 x 0.9 mm Body, 0.5 mm Pitch, Exposed Pad; Supplier 1: Digi-Key; Supplier Part Number 1: 336-1493-5-ND; Supplier 2: Mouser; Supplier Part Number 2: 634-C8051F526A-IM; Code_JEDEC: MO-220-VEED; ComponentLink1Description: Manufacturer URL; ComponentLink1URL: http://www.silabs.com; ComponentLink2Description: Datasheet; ComponentLink2URL: http://www.silabs.com/Support%20Documents/TechnicalDocs/C8051F52x-F53x.pdf
footprint DFN10_V (SON, 10-Leads, Body 3x3mm, Pitch 0.5mm, Silicon Labs Recommended)
pins: 1 ~{RST}/C2CK (io), 2 P0.0/VREF (io), 3 GND (power), 4 VDD (power), 5 VREGIN (power), 6 P0.5/CNVSTR/RX (io), 7 P0.4/TX (io), 8 P0.3/XTAL2 (io), 9 P0.2/XTAL1 (io), 10 P0.1/C2D (io), 11 EP (power)

## C8051F527-C-AM
designator U?
ISP Flash MCU Family, 25 MHz, 0.25 kB RAM, 2 kB Flash, -40 to 125 degC, 10-pin SON; Manufacturer: Silicon Labs; PartNumber: C8051F527-C-AM; Note: 0; ADC 1: 12-bit, 6-ch., 200 ksps; AEC-Q100: TRUE; Comparators: 1; Debug Interface: C2; Dig I/O Pins: 6; Flash: 2 kB; Internal Osc. Accuracy: +/-0.5%; MCU Core: 8051; MHz: 25; PCA Channels: 3; RAM: 0.25 kB; Sub-Family: Automotive & Industrial MCUs; DatasheetVersion: Rev. 1.4; PackageReference: DFN-10; PackageDescription: 10-Pin DFN, Body 3 x 3 mm, Pitch 0.5 mm; Temp Sensor: TRUE; Timers (16-bit): 3; Mounting Technology: Surface Mount; Code_JEDEC: MO-220; Code_IPC: J-STD-020; ComponentLink1Description: Manufacturer URL; ComponentLink1URL: http://www.silabs.com; ComponentLink2Description: Datasheet; ComponentLink2URL: http://www.silabs.com/Support Documents/TechnicalDocs/C8051F52x-F53x.pdf; ComponentLink3Description: Package Specification; ComponentLink3URL: http://www.silabs.com/Support Documents/TechnicalDocs/C8051F52x-F53x.pdf
footprint SLAB-DFN-10-2380X1650TP_V (SON, 10-Leads, Body 3x3mm, Pitch 0.5mm, Thermal Pad 1.75x2.5mm)
pins: 1 ~{RST}/C2CK (io), 2 P0.0/VREF (io), 3 GND (power) "Ground.", 4 VDD (power) "Core Supply Voltage.", 5 VREGIN (power) "On-Chip Voltage Regulator Input.", 6 P0.5/CNVSTR/RX (io), 7 P0.4/TX (io), 8 P0.3/XTAL2 (io), 9 P0.2/XTAL1 (io), 10 P0.1/C2D (io), 11 GND (power) "Ground."

## C8051F527-C-IM
designator U?
ISP Flash MCU Family, 25 MHz, 0.25 kB RAM, 2 kB Flash, -40 to 125 degC, 10-pin SON; Manufacturer: Silicon Labs; PartNumber: C8051F527-C-IM; ADC 1: 12-bit, 6-ch., 200 ksps; AEC-Q100: FALSE; Comparators: 1; Debug Interface: C2; Dig I/O Pins: 6; Flash: 2 kB; Internal Osc. Accuracy: +/-0.5%; MCU Core: 8051; MHz: 25; PCA Channels: 3; RAM: 0.25 kB; Temp Sensor: TRUE; Sub-Family: Automotive & Industrial MCUs; DatasheetVersion: Rev. 1.4; PackageReference: DFN-10; PackageDescription: 10-Pin DFN, Body 3 x 3 mm, Pitch 0.5 mm; Supplier 1: Digi-Key; Supplier Part Number 1: C8051F527-C-IM-ND; Supplier 2: Mouser; Supplier Part Number 2: 634-C8051F527-C-IM; Timers (16-bit): 3; Mounting Technology: Surface Mount; Code_JEDEC: MO-220; Code_IPC: J-STD-020; ComponentLink1Description: Manufacturer URL; ComponentLink1URL: http://www.silabs.com; ComponentLink2Description: Datasheet; ComponentLink2URL: http://www.silabs.com/Support Documents/TechnicalDocs/C8051F52x-F53x.pdf; ComponentLink3Description: Package Specification; ComponentLink3URL: http://www.silabs.com/Support Documents/TechnicalDocs/C8051F52x-F53x.pdf
footprint SLAB-DFN-10-2380X1650TP_V (SON, 10-Leads, Body 3x3mm, Pitch 0.5mm, Thermal Pad 1.75x2.5mm)
pins: 1 ~{RST}/C2CK (io), 2 P0.0/VREF (io), 3 GND (power) "Ground.", 4 VDD (power) "Core Supply Voltage.", 5 VREGIN (power) "On-Chip Voltage Regulator Input.", 6 P0.5/CNVSTR/RX (io), 7 P0.4/TX (io), 8 P0.3/XTAL2 (io), 9 P0.2/XTAL1 (io), 10 P0.1/C2D (io), 11 GND (power) "Ground."

## C8051F527A-AM
designator U?
Mixed Signal 2KB Flash ISP MCU, 256B RAM, 6 I/Os, 12-Bit 6 Channel ADC, SPI, 10-Pin DFN, Automotive Grade; Manufacturer: Silicon Labs; PartNumber: C8051F527A-AM; DatasheetVersion: rev1.3, Apr-2011; PackageVersion: 2011; PackageReference: DFN-10; PackageDescription: 10-Pin DFN, 3 x 3 x 0.9 mm Body, 0.5 mm Pitch, Exposed Pad; Code_JEDEC: MO-220-VEED; ComponentLink1Description: Manufacturer URL; ComponentLink1URL: http://www.silabs.com; ComponentLink2Description: Datasheet; ComponentLink2URL: http://www.silabs.com/Support%20Documents/TechnicalDocs/C8051F52x-F53x.pdf
footprint DFN10_V (SON, 10-Leads, Body 3x3mm, Pitch 0.5mm, Silicon Labs Recommended)
pins: 1 ~{RST}/C2CK (io), 2 P0.0/VREF (io), 3 GND (power), 4 VDD (power), 5 VREGIN (power), 6 P0.5/CNVSTR/RX (io), 7 P0.4/TX (io), 8 P0.3/XTAL2 (io), 9 P0.2/XTAL1 (io), 10 P0.1/C2D (io), 11 EP (power)

## C8051F527A-IM
designator U?
Mixed Signal 2KB Flash ISP MCU, 256B RAM, 6 I/Os, 12-Bit 6c Channel ADC, SPI, 10-Pin DFN, Automotive Grade; Manufacturer: Silicon Labs; PartNumber: C8051F527A-IM; DatasheetVersion: rev1.3, Apr-2011; PackageVersion: 2011; PackageReference: DFN-10; PackageDescription: 10-Pin DFN, 3 x 3 x 0.9 mm Body, 0.5 mm Pitch, Exposed Pad; Supplier 1: Digi-Key; Supplier Part Number 1: 336-1494-5-ND; Supplier 2: Mouser; Supplier Part Number 2: 634-C8051F527A-IM; Code_JEDEC: MO-220-VEED; ComponentLink1Description: Manufacturer URL; ComponentLink1URL: http://www.silabs.com; ComponentLink2Description: Datasheet; ComponentLink2URL: http://www.silabs.com/Support%20Documents/TechnicalDocs/C8051F52x-F53x.pdf
footprint DFN10_V (SON, 10-Leads, Body 3x3mm, Pitch 0.5mm, Silicon Labs Recommended)
pins: 1 ~{RST}/C2CK (io), 2 P0.0/VREF (io), 3 GND (power), 4 VDD (power), 5 VREGIN (power), 6 P0.5/CNVSTR/RX (io), 7 P0.4/TX (io), 8 P0.3/XTAL2 (io), 9 P0.2/XTAL1 (io), 10 P0.1/C2D (io), 11 EP (power)

## C8051F530-C-AM
designator U?
ISP Flash MCU Family, 25 MHz, 0.25 kB RAM, 8 kB Flash, -40 to 125 degC, 20-pin QFN; Manufacturer: Silicon Labs; PartNumber: C8051F530-C-AM; Note: 0; ADC 1: 12-bit, 16-ch., 200 ksps; AEC-Q100: TRUE; Comparators: 1; Debug Interface: C2; Dig I/O Pins: 16; Flash: 8 kB; Internal Osc. Accuracy: +/-0.5%; MCU Core: 8051; MHz: 25; PCA Channels: 3; RAM: 0.25 kB; Sub-Family: Automotive & Industrial MCUs; DatasheetVersion: Rev. 1.4; PackageReference: QFN-20; PackageDescription: 20-Pin Quad-Flat No-Leads Package, Body 4 x 4 mm, Pitch 0.5 mm; Temp Sensor: TRUE; Timers (16-bit): 3; Mounting Technology: Surface Mount; Code_JEDEC: MO-220; Code_IPC: J-STD-020; ComponentLink1Description: Manufacturer URL; ComponentLink1URL: http://www.silabs.com; ComponentLink2Description: Datasheet; ComponentLink2URL: http://www.silabs.com/Support Documents/TechnicalDocs/C8051F52x-F53x.pdf; ComponentLink3Description: Package Specification; ComponentLink3URL: http://www.silabs.com/Support%20Documents/TechnicalDocs/C8051F52x-F53x.pdf
footprint SLAB-QFN-20-2700x2700TP_N (QFN, 20-Leads, Body 4x4mm, Pitch 0.5mm, Thermal Pad 2.7x2.7mm, IPC Medium Density)
footprint SLAB-QFN-20-2700x2700TP_L (QFN, 20-Leads, Body 4x4mm, Pitch 0.5mm, Thermal Pad 2.7x2.7mm, IPC High Density)
footprint SLAB-QFN-20-2700x2700TP_M (QFN, 20-Leads, Body 4x4mm, Pitch 0.5mm, Thermal Pad 2.7x2.7mm, IPC Low Density)
pins: 1 ~{RST}/C2CK (io), 2 P0.0/VREF (io), 3 GND (power) "Ground.", 4 VDD (power) "Core Supply Voltage.", 5 VREGIN (power) "On-Chip Voltage Regulator Input.", 6 P1.7 (io) "Port 1.7. See Port I/O Section for a complete description.", 7 P1.6 (io) "Port 1.6. See Port I/O Section for a complete description.", 8 P1.5 (io) "Port 1.5. See Port I/O Section for a complete description.", 9 P1.4 (io) "Port 1.4. See Port I/O Section for a complete description.", 10 P1.3 (io) "Port 1.3. See Port I/O Section for a complete description.", 11 P1.2/CNVSTR (io), 12 P1.1 (io) "Port 1.1. See Port I/O Section for a complete description.", 13 P1.0/XTAL2 (io), 14 P0.7/XTAL1 (io), 15 P0.6/C2D (io), 16 P0.5/RX (io), 17 P0.4/TX (io), 18 P0.3 (io) "Port 0.3. See Port I/O Section for a complete description.", 19 P0.2 (io) "Port 0.2. See Port I/O Section for a complete description.", 20 P0.1 (io) "Port 0.1. See Port I/O Section for a complete description.", 21 GND (power)

## C8051F530-C-AT
designator U?
ISP Flash MCU Family, 25 MHz, 0.25 kB RAM, 8 kB Flash, -40 to 125 degC, 20-pin SOP; Manufacturer: Silicon Labs; PartNumber: C8051F530-C-AT; Note: 0; ADC 1: 12-bit, 16-ch., 200 ksps; AEC-Q100: TRUE; Comparators: 1; Debug Interface: C2; Dig I/O Pins: 16; Flash: 8 kB; Internal Osc. Accuracy: +/-0.5%; MCU Core: 8051; MHz: 25; PCA Channels: 3; RAM: 0.25 kB; Sub-Family: Automotive & Industrial MCUs; DatasheetVersion: Rev. 1.4; PackageReference: TSSOP-20; PackageDescription: 20-Pin Thin Shrink Small-Outline Package, Body 6.5 x 4.4 mm, Pitch 0.65 mm; Temp Sensor: TRUE; Timers (16-bit): 3; Mounting Technology: Surface Mount; Code_JEDEC: MO-153; Code_IPC: J-STD-020; ComponentLink1Description: Manufacturer URL; ComponentLink1URL: http://www.silabs.com; ComponentLink2Description: Datasheet; ComponentLink2URL: http://www.silabs.com/Support Documents/TechnicalDocs/C8051F52x-F53x.pdf; ComponentLink3Description: Package Specification; ComponentLink3URL: http://www.silabs.com/Support Documents/TechnicalDocs/C8051F52x-F53x.pdf
footprint SLAB-TSSOP-20_N (SOP, 20-Leads, Body 6.6x4.5mm, Pitch 0.65mm, , IPC Medium Density)
footprint SLAB-TSSOP-20_L (SOP, 20-Leads, Body 6.6x4.5mm, Pitch 0.65mm, IPC High Density)
footprint SLAB-TSSOP-20_M (SOP, 20-Leads, Body 6.6x4.5mm, Pitch 0.65mm, IPC Low Density)
pins: 1 P0.2 (io) "Port 0.2. See Port I/O Section for a complete description.", 2 P0.1 (io) "Port 0.1. See Port I/O Section for a complete description.", 3 ~{RST}/C2CK (io), 4 P0.0/VREF (io), 5 GND (power) "Ground.", 6 VDD (power) "Core Supply Voltage.", 7 VREGIN (power) "On-Chip Voltage Regulator Input.", 8 P1.7 (io) "Port 1.7. See Port I/O Section for a complete description.", 9 P1.6 (io) "Port 1.6. See Port I/O Section for a complete description.", 10 P1.5 (io) "Port 1.5. See Port I/O Section for a complete description.", 11 P1.4 (io) "Port 1.4. See Port I/O Section for a complete description.", 12 P1.3 (io) "Port 1.3. See Port I/O Section for a complete description.", 13 P1.2/CNVSTR (io), 14 P1.1 (io) "Port 1.1. See Port I/O Section for a complete description.", 15 P1.0/XTAL2 (io), 16 P0.7/XTAL1 (io), 17 P0.6/C2D (io), 18 P0.5/RX (io), 19 P0.4/TX (io), 20 P0.3 (io) "Port 0.3. See Port I/O Section for a complete description."

## C8051F530-C-IM
designator U?
ISP Flash MCU Family, 25 MHz, 0.25 kB RAM, 8 kB Flash, -40 to 125 degC, 20-pin QFN; Manufacturer: Silicon Labs; PartNumber: C8051F530-C-IM; ADC 1: 12-bit, 16-ch., 200 ksps; AEC-Q100: FALSE; Comparators: 1; Debug Interface: C2; Dig I/O Pins: 16; Flash: 8 kB; Internal Osc. Accuracy: +/-0.5%; MCU Core: 8051; MHz: 25; PCA Channels: 3; RAM: 0.25 kB; Temp Sensor: TRUE; Sub-Family: Automotive & Industrial MCUs; DatasheetVersion: Rev. 1.4; PackageReference: QFN-20; PackageDescription: 20-Pin Quad-Flat No-Leads Package, Body 4 x 4 mm, Pitch 0.5 mm; Supplier 1: Digi-Key; Supplier Part Number 1: C8051F530-C-IM-ND; Supplier 2: Mouser; Supplier Part Number 2: 634-C8051F530-C-IM; Timers (16-bit): 3; Mounting Technology: Surface Mount; Code_JEDEC: MO-220; Code_IPC: J-STD-020; ComponentLink1Description: Manufacturer URL; ComponentLink1URL: http://www.silabs.com; ComponentLink2Description: Datasheet; ComponentLink2URL: http://www.silabs.com/Support Documents/TechnicalDocs/C8051F52x-F53x.pdf; ComponentLink3Description: Package Specification; ComponentLink3URL: http://www.silabs.com/Support%20Documents/TechnicalDocs/C8051F52x-F53x.pdf
footprint SLAB-QFN-20-2700x2700TP_N (QFN, 20-Leads, Body 4x4mm, Pitch 0.5mm, Thermal Pad 2.7x2.7mm, IPC Medium Density)
footprint SLAB-QFN-20-2700x2700TP_L (QFN, 20-Leads, Body 4x4mm, Pitch 0.5mm, Thermal Pad 2.7x2.7mm, IPC High Density)
footprint SLAB-QFN-20-2700x2700TP_M (QFN, 20-Leads, Body 4x4mm, Pitch 0.5mm, Thermal Pad 2.7x2.7mm, IPC Low Density)
pins: 1 ~{RST}/C2CK (io), 2 P0.0/VREF (io), 3 GND (power) "Ground.", 4 VDD (power) "Core Supply Voltage.", 5 VREGIN (power) "On-Chip Voltage Regulator Input.", 6 P1.7 (io) "Port 1.7. See Port I/O Section for a complete description.", 7 P1.6 (io) "Port 1.6. See Port I/O Section for a complete description.", 8 P1.5 (io) "Port 1.5. See Port I/O Section for a complete description.", 9 P1.4 (io) "Port 1.4. See Port I/O Section for a complete description.", 10 P1.3 (io) "Port 1.3. See Port I/O Section for a complete description.", 11 P1.2/CNVSTR (io), 12 P1.1 (io) "Port 1.1. See Port I/O Section for a complete description.", 13 P1.0/XTAL2 (io), 14 P0.7/XTAL1 (io), 15 P0.6/C2D (io), 16 P0.5/RX (io), 17 P0.4/TX (io), 18 P0.3 (io) "Port 0.3. See Port I/O Section for a complete description.", 19 P0.2 (io) "Port 0.2. See Port I/O Section for a complete description.", 20 P0.1 (io) "Port 0.1. See Port I/O Section for a complete description.", 21 GND (power)

## C8051F530-C-IT
designator U?
ISP Flash MCU Family, 25 MHz, 0.25 kB RAM, 8 kB Flash, -40 to 125 degC, 20-pin SOP; Manufacturer: Silicon Labs; PartNumber: C8051F530-C-IT; ADC 1: 12-bit, 16-ch., 200 ksps; AEC-Q100: FALSE; Comparators: 1; Debug Interface: C2; Dig I/O Pins: 16; Flash: 8 kB; Internal Osc. Accuracy: +/-0.5%; MCU Core: 8051; MHz: 25; PCA Channels: 3; RAM: 0.25 kB; Temp Sensor: TRUE; Sub-Family: Automotive & Industrial MCUs; DatasheetVersion: Rev. 1.4; PackageReference: TSSOP-20; PackageDescription: 20-Pin Thin Shrink Small-Outline Package, Body 6.5 x 4.4 mm, Pitch 0.65 mm; Supplier 1: Digi-Key; Supplier Part Number 1: C8051F530-C-IT-ND; Supplier 2: Mouser; Supplier Part Number 2: 634-C8051F530-C-IT; Timers (16-bit): 3; Mounting Technology: Surface Mount; Code_JEDEC: MO-153; Code_IPC: J-STD-020; ComponentLink1Description: Manufacturer URL; ComponentLink1URL: http://www.silabs.com; ComponentLink2Description: Datasheet; ComponentLink2URL: http://www.silabs.com/Support Documents/TechnicalDocs/C8051F52x-F53x.pdf; ComponentLink3Description: Package Specification; ComponentLink3URL: http://www.silabs.com/Support Documents/TechnicalDocs/C8051F52x-F53x.pdf
footprint SLAB-TSSOP-20_N (SOP, 20-Leads, Body 6.6x4.5mm, Pitch 0.65mm, , IPC Medium Density)
footprint SLAB-TSSOP-20_L (SOP, 20-Leads, Body 6.6x4.5mm, Pitch 0.65mm, IPC High Density)
footprint SLAB-TSSOP-20_M (SOP, 20-Leads, Body 6.6x4.5mm, Pitch 0.65mm, IPC Low Density)
pins: 1 P0.2 (io) "Port 0.2. See Port I/O Section for a complete description.", 2 P0.1 (io) "Port 0.1. See Port I/O Section for a complete description.", 3 ~{RST}/C2CK (io), 4 P0.0/VREF (io), 5 GND (power) "Ground.", 6 VDD (power) "Core Supply Voltage.", 7 VREGIN (power) "On-Chip Voltage Regulator Input.", 8 P1.7 (io) "Port 1.7. See Port I/O Section for a complete description.", 9 P1.6 (io) "Port 1.6. See Port I/O Section for a complete description.", 10 P1.5 (io) "Port 1.5. See Port I/O Section for a complete description.", 11 P1.4 (io) "Port 1.4. See Port I/O Section for a complete description.", 12 P1.3 (io) "Port 1.3. See Port I/O Section for a complete description.", 13 P1.2/CNVSTR (io), 14 P1.1 (io) "Port 1.1. See Port I/O Section for a complete description.", 15 P1.0/XTAL2 (io), 16 P0.7/XTAL1 (io), 17 P0.6/C2D (io), 18 P0.5/RX (io), 19 P0.4/TX (io), 20 P0.3 (io) "Port 0.3. See Port I/O Section for a complete description."

## C8051F530A-AM
designator U?
Mixed Signal 8KB Flash ISP MCU, 256B RAM, 16 I/Os, 12-Bit 16 Channel ADC, LIN 2.1, 20-Pin QFN, Automotive Grade; Manufacturer: Silicon Labs; PartNumber: C8051F530A-AM; DatasheetVersion: rev1.3, Apr-2011; PackageVersion: 2011; PackageReference: QFN-20; PackageDescription: 20-Pin Quad Flat No-Lead, 4 x 4 x 0.9 mm Body, 0.5 mm Pitch; Code_JEDEC: MO-220-VGGD; ComponentLink1Description: Manufacturer URL; ComponentLink1URL: http://www.silabs.com; ComponentLink2Description: Datasheet; ComponentLink2URL: http://www.silabs.com/Support%20Documents/TechnicalDocs/C8051F52x-F53x.pdf
footprint QFN-20_V (QFN, 20-Leads, Body 4x4mm, Pitch 0.5mm, Thermal Pad 2.8x2.8mm, Silicon Labs Recommended)
pins: 1 ~{RST}/C2CK (io), 2 P0.0/VREF (io), 3 GND (power), 4 VDD (power), 5 VREGIN (power), 6 P1.7 (io), 7 P1.6 (io), 8 P1.5 (io), 9 P1.4 (io), 10 P1.3 (io), 11 P1.2/CNVSTR (io), 12 P1.1 (io), 13 P1.0/XTAL2 (io), 14 P0.7/XTAL1 (io), 15 P0.6/C2D (io), 16 P0.5/RX (io), 17 P0.4/TX (io), 18 P0.3 (io), 19 P0.2 (io), 20 P0.1 (io), 21 EP (power)